# Altium footprint library relay.PcbLib: 1 footprints
Each footprint in its own frame and in the unit in brackets; x right, y up, seen from the top. Pads: shape width x height; smd on the part's side, far side on the other; paste and mask are expansions set on the pad; w line width, h text height; cw(c..) or ccw(c..) is an arc to the next point about the centre after c.
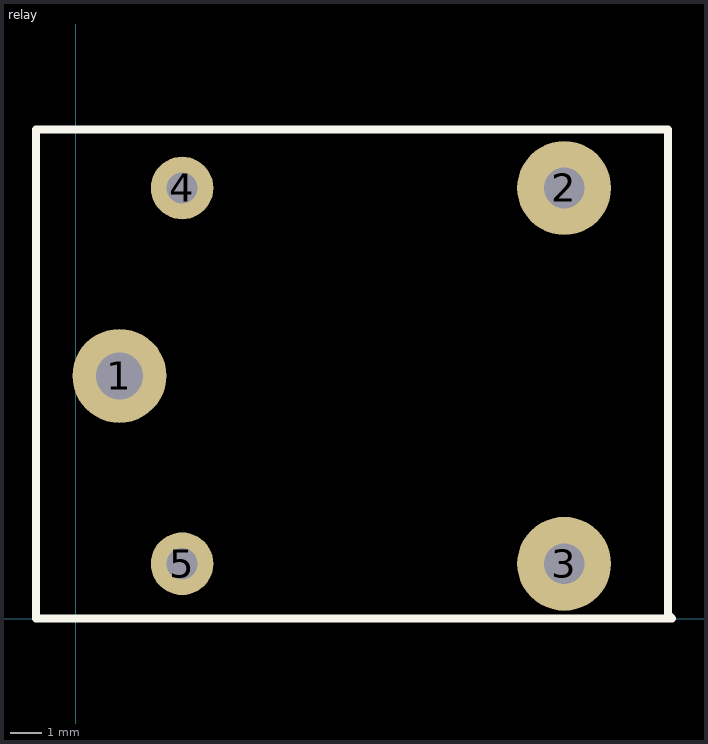
[diagram p0: the footprint, top view; thin cyan lines are the x and y axes]

## relay [mm]
pads (5):
  round 3 hole 1.5: 1(1.4,7.75)
  round 3 hole 1.3: 2(15.6,13.75) 3(15.6,1.75)
  round 2 hole 1: 4(3.4,13.75) 5(3.4,1.75)
Top Overlay:
  lines w0.254: -1.27,0 0,0 19.05,0 18.923,0.127 18.923,15.621 -1.27,15.621 -1.27,0